# EAGLE library part ADC7802 (library burr-brown)
12-Bit Analog to Digital Converter
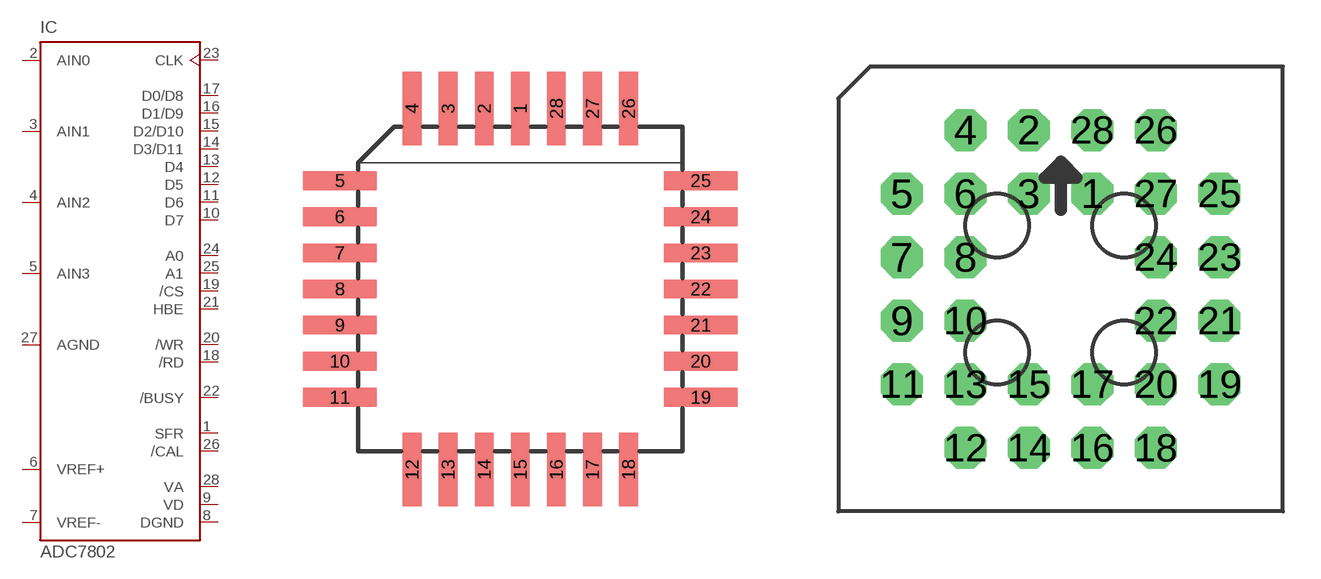
[diagram p171: symbol with the pads of PLCC28; footprints PLCC28, PLCC-S28]

Designator prefix IC

## ADC7802PLC  [PLCC28]
1  SFR  pas
2  AIN0  in
3  AIN1  in
4  AIN2  in
5  AIN3  in
6  VREF+  in
7  VREF-  in
8  DGND  pas
9  VD  pas
10  D7  hiz
11  D6  hiz
12  D5  hiz
13  D4  hiz
14  D3/D11  hiz
15  D2/D10  hiz
16  D1/D9  hiz
17  D0/D8  hiz
18  /RD  in
19  /CS  in
20  /WR  in
21  HBE  in
22  /BUSY  out
23  CLK  in
24  A0  in
25  A1  in
26  /CAL  in
27  AGND  pas
28  VA  pas

## ADC7802PLC-S  [PLCC-S28]
Pads as for PLCC28

## Footprint PLCC28 (pad centres in mm)
PLASTIC LEADED CHIP CARRIER square
smd 0.66 x 2.591: 1 0,6.35; 2 -1.27,6.35; 3 -2.54,6.35; 4 -3.81,6.35; 12 -3.81,-6.35; 13 -2.54,-6.35; 14 -1.27,-6.35; 15 0,-6.35; 16 1.27,-6.35; 17 2.54,-6.35; 18 3.81,-6.35; 26 3.81,6.35; 27 2.54,6.35; 28 1.27,6.35
smd 2.591 x 0.66: 5 -6.35,3.81; 6 -6.35,2.54; 7 -6.35,1.27; 8 -6.35,0; 9 -6.35,-1.27; 10 -6.35,-2.54; 11 -6.35,-3.81; 19 6.35,-3.81; 20 6.35,-2.54; 21 6.35,-1.27; 22 6.35,0; 23 6.35,1.27; 24 6.35,2.54; 25 6.35,3.81

## Footprint PLCC-S28 (pad centres in mm)
SOCKET Plastic leaded chip carrier, square
drill 0.813 pad 1.676 octagon: 1 1.27,3.81; 2 -1.27,6.35; 3 -1.27,3.81; 4 -3.81,6.35; 5 -6.35,3.81; 6 -3.81,3.81; 7 -6.35,1.27; 8 -3.81,1.27; 9 -6.35,-1.27; 10 -3.81,-1.27; 11 -6.35,-3.81; 12 -3.81,-6.35; 13 -3.81,-3.81; 14 -1.27,-6.35; 15 -1.27,-3.81; 16 1.27,-6.35; 17 1.27,-3.81; 18 3.81,-6.35; 19 6.35,-3.81; 20 3.81,-3.81; 21 6.35,-1.27; 22 3.81,-1.27; 23 6.35,1.27; 24 3.81,1.27; 25 6.35,3.81; 26 3.81,6.35; 27 3.81,3.81; 28 1.27,6.35